# Altium integrated library ST Power Mgt DC-DC Converter.IntLib: 19 symbols
Pins are listed as number, name and electrical type; pins without a type are passive.

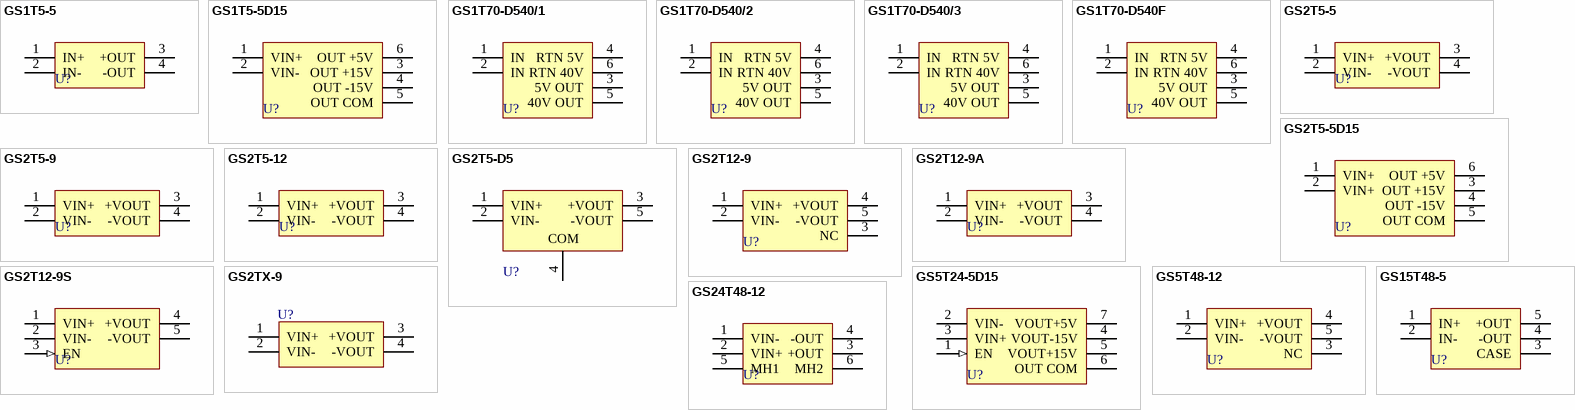
[diagram p0: symbols GS1T5-5 to GS24T48-12]

## GS1T5-5
designator U?
1W  DC-DC Converter; PackageDocument: 1994; Published: 24-Aug-2001; LatestRevisionDate: 17-Jul-2002; LatestRevisionNote: Re-released for DXP Platform.; DatasheetDocument: Jun-1994; PackageReference: MODULE4; Publisher: Altium Limited; ComponentLink1Description: Manufacturer Link; ComponentLink1URL: http://www.st.com/; ComponentLink2Description: Datasheet; ComponentLink2URL: http://www.st.com/stonline/products/literature/ds/2682/gs1t5-5.pdf
footprint MODULE4 (DIP; 4 Round Pins; Row Space 27.94 mm; Pitch 15.24 mm)
pins: 1 IN+ (power), 2 IN- (power), 3 +OUT (power), 4 -OUT (power)

## GS1T5-5D15
designator U?
1W Triple Output DC-DC Converter; Published: 24-Aug-2001; LatestRevisionDate: 17-Jul-2002; LatestRevisionNote: Re-released for DXP Platform.; DatasheetDocument: Jun-1994; PackageReference: MODULE6; Publisher: Altium Limited; ComponentLink1Description: Manufacturer Link; ComponentLink1URL: http://www.st.com/
footprint MODULE6 (DIP; 6 Round Pins; Row Space 20.32 mm; Pitch 2.54 mm)
pins: 1 VIN+ (power), 2 VIN- (power), 3 OUT +15V (power), 4 OUT -15V (power), 5 OUT COM (power), 6 OUT +5V (power)

## GS1T70-D540/1
designator U?
ISDN DC-DC Converter; Published: 24-Aug-2001; LatestRevisionDate: 17-Jul-2002; LatestRevisionNote: PCB footprint, 'DIP-P6/Y1.9' replaced; Re-released for DXP Platform.; DatasheetDocument: Jan-1996; PackageReference: MODULE6A; Publisher: Altium Limited; ComponentLink1Description: Manufacturer Link; ComponentLink1URL: http://www.st.com/
footprint MODULE6A (DIP; 6 Round Pins; Row Space 40.64 mm; Pitch 2.54 mm)
pins: 1 IN (power), 2 IN (power), 3 5V OUT (power), 4 RTN 5V (power), 5 40V OUT (power), 6 RTN 40V (power)

## GS1T70-D540/2
designator U?
ISDN DC-DC Converter; Published: 24-Aug-2001; LatestRevisionDate: 17-Jul-2002; LatestRevisionNote: PCB footprint, 'DIP-P6/Y1.9' replaced; Re-released for DXP Platform.; DatasheetDocument: Jan-1997; PackageReference: MODULE6A; Publisher: Altium Limited; ComponentLink1Description: Manufacturer Link; ComponentLink1URL: http://www.st.com/
footprint MODULE6A (DIP; 6 Round Pins; Row Space 40.64 mm; Pitch 2.54 mm)
pins: 1 IN (power), 2 IN (power), 3 5V OUT (power), 4 RTN 5V (power), 5 40V OUT (power), 6 RTN 40V (power)

## GS1T70-D540/3
designator U?
ISDN DC-DC Converter; Published: 24-Aug-2001; LatestRevisionDate: 17-Jul-2002; LatestRevisionNote: PCB footprint, 'DIP-P6/Y1.9' replaced; Re-released for DXP Platform.; DatasheetDocument: Jan-1997; PackageReference: MODULE6A; Publisher: Altium Limited; ComponentLink1Description: Manufacturer Link; ComponentLink1URL: http://www.st.com/
footprint MODULE6A (DIP; 6 Round Pins; Row Space 40.64 mm; Pitch 2.54 mm)
pins: 1 IN (power), 2 IN (power), 3 5V OUT (power), 4 RTN 5V (power), 5 40V OUT (power), 6 RTN 40V (power)

## GS1T70-D540F
designator U?
ISDN DC-DC Converter(French Version); Published: 24-Aug-2001; LatestRevisionDate: 17-Jul-2002; LatestRevisionNote: Re-released for DXP Platform.; DatasheetDocument: Jun-1994; PackageReference: MODULE6B; Publisher: Altium Limited; ComponentLink1Description: Manufacturer Link; ComponentLink1URL: http://www.st.com/
footprint MODULE6B (DIP; 6 Round Pins; Row Space 40.64 mm; Pitch 2.54 mm)
pins: 1 IN (power), 2 IN (power), 3 5V OUT (power), 4 RTN 5V (power), 5 40V OUT (power), 6 RTN 40V (power)

## GS2T5-5
designator U?
2W DC-DC Converter; PackageDocument: 1994; Published: 24-Aug-2001; LatestRevisionDate: 17-Jul-2002; LatestRevisionNote: Re-released for DXP Platform.; DatasheetDocument: Jun-1994; PackageReference: MODULE4; Publisher: Altium Limited; ComponentLink1Description: Manufacturer Link; ComponentLink1URL: http://www.st.com/
footprint MODULE4 (DIP; 4 Round Pins; Row Space 27.94 mm; Pitch 15.24 mm)
pins: 1 VIN+ (power), 2 VIN- (power), 3 +VOUT (power), 4 -VOUT (power)

## GS2T5-5D15
designator U?
2W Triple Output DC-DC Converter; Published: 24-Aug-2001; LatestRevisionDate: 17-Jul-2002; LatestRevisionNote: Re-released for DXP Platform.; DatasheetDocument: Dec-1993; PackageReference: MODULE6; Publisher: Altium Limited; ComponentLink1Description: Manufacturer Link; ComponentLink1URL: http://www.st.com/
footprint MODULE6 (DIP; 6 Round Pins; Row Space 20.32 mm; Pitch 2.54 mm)
pins: 1 VIN+ (power), 2 VIN+ (power), 3 OUT +15V (power), 4 OUT -15V (power), 5 OUT COM (power), 6 OUT +5V (power)

## GS2T5-9
designator U?
2W LAN DC-DC Converter; PackageDocument: 1994; Published: 24-Aug-2001; LatestRevisionDate: 17-Jul-2002; LatestRevisionNote: Re-released for DXP Platform.; DatasheetDocument: Dec-1993; PackageReference: MODULE4; Publisher: Altium Limited; ComponentLink1Description: Manufacturer Link; ComponentLink1URL: http://www.st.com/; ComponentLink2Description: Datasheet; ComponentLink2URL: http://www.st.com/stonline/products/literature/ds/2646/gs2t5-9.pdf
footprint MODULE4 (DIP; 4 Round Pins; Row Space 27.94 mm; Pitch 15.24 mm)
pins: 1 VIN+ (power), 2 VIN- (power), 3 +VOUT (power), 4 -VOUT (power)

## GS2T5-12
designator U?
2W DC-DC Converter; PackageDocument: 1994; Published: 24-Aug-2001; LatestRevisionDate: 17-Jul-2002; LatestRevisionNote: Re-released for DXP Platform.; DatasheetDocument: Dec-1993; PackageReference: MODULE4; Publisher: Altium Limited; ComponentLink1Description: Manufacturer Link; ComponentLink1URL: http://www.st.com/
footprint MODULE4 (DIP; 4 Round Pins; Row Space 27.94 mm; Pitch 15.24 mm)
pins: 1 VIN+ (power), 2 VIN- (power), 3 +VOUT (power), 4 -VOUT (power)

## GS2T5-D5
designator U?
2W Dual Output DC-DC Converter; Published: 24-Aug-2001; LatestRevisionDate: 17-Jul-2002; LatestRevisionNote: PCB footprint, 'DIP-P5/X2' replaced; Re-released for DXP Platform.; DatasheetDocument: Dec-1993; PackageReference: MODULE5C; Publisher: Altium Limited; ComponentLink1Description: Manufacturer Link; ComponentLink1URL: http://www.st.com/; ComponentLink2Description: Datasheet; ComponentLink2URL: http://www.st.com/stonline/products/literature/ds/2648/gs2t5-d5.pdf
footprint MODULE5C (DIP; 5 Round Pins; Row Space 20.32 mm; Pitch 2.54 mm)
pins: 1 VIN+ (power), 2 VIN- (power), 3 +VOUT (power), 4 COM (power), 5 -VOUT (power)

## GS2T12-9
designator U?
2W LAN DC-DC Converter; Published: 24-Aug-2001; LatestRevisionDate: 17-Jul-2002; LatestRevisionNote: PCB footprint, 'DIP-P5/X1.9' replaced; Re-released for DXP Platform.; DatasheetDocument: Jun-1994; PackageReference: MODULE5A; Publisher: Altium Limited; ComponentLink1Description: Manufacturer Link; ComponentLink1URL: http://www.st.com/
footprint MODULE5A (DIP; 5 Round Pins; Row Space 20.32 mm; Pitch 2.54 mm)
pins: 1 VIN+ (power), 2 VIN- (power), 3 NC, 4 +VOUT (power), 5 -VOUT (power)

## GS2T12-9A
designator U?
2W LAN DC-DC Converter; PackageDocument: 1994; Published: 24-Aug-2001; LatestRevisionDate: 17-Jul-2002; LatestRevisionNote: Re-released for DXP Platform.; DatasheetDocument: Dec-1993; PackageReference: MODULE4; Publisher: Altium Limited; ComponentLink1Description: Manufacturer Link; ComponentLink1URL: http://www.st.com/
footprint MODULE4 (DIP; 4 Round Pins; Row Space 27.94 mm; Pitch 15.24 mm)
pins: 1 VIN+ (power), 2 VIN- (power), 3 +VOUT (power), 4 -VOUT (power)

## GS2T12-9S
designator U?
2W LAN DC-DC Converter; Published: 24-Aug-2001; LatestRevisionDate: 17-Jul-2002; LatestRevisionNote: PCB footprint, 'DIP-P5/X1.6' replaced; Re-released for DXP Platform.; DatasheetDocument: Dec-1993; PackageReference: MODULE5B; Publisher: Altium Limited; ComponentLink1Description: Manufacturer Link; ComponentLink1URL: http://www.st.com/
footprint MODULE5B (DIP; 5 Round Pins; Row Space 15.24 mm; Pitch 2.54 mm)
pins: 1 VIN+ (power), 2 VIN- (power), 3 EN (in), 4 +VOUT (power), 5 -VOUT (power)

## GS2TX-9
designator U?
2W LAN DC-DC Converter; PackageDocument: 1994; Published: 24-Aug-2001; LatestRevisionDate: 17-Jul-2002; LatestRevisionNote: Re-released for DXP Platform.; DatasheetDocument: Dec-1993; PackageReference: MODULE4; Publisher: Altium Limited; ComponentLink1Description: Manufacturer Link; ComponentLink1URL: http://www.st.com/; ComponentLink2Description: Datasheet; ComponentLink2URL: http://www.st.com/stonline/products/literature/ds/2649/gs2tx-9.pdf
footprint MODULE4 (DIP; 4 Round Pins; Row Space 27.94 mm; Pitch 15.24 mm)
pins: 1 VIN+ (power), 2 VIN- (power), 3 +VOUT (power), 4 -VOUT (power)

## GS5T24-5D15
designator U?
5W Triple Output DC-DC Converter; Published: 24-Aug-2001; LatestRevisionDate: 17-Jul-2002; LatestRevisionNote: PCB footprint, 'DIP-P7/X2' replaced; Re-released for DXP Platform.; DatasheetDocument: Jun-1994; PackageReference: MODULE7; Publisher: Altium Limited; ComponentLink1Description: Manufacturer Link; ComponentLink1URL: http://www.st.com/; ComponentLink2Description: Datasheet; ComponentLink2URL: http://www.st.com/stonline/products/literature/ds/2653/gs5t24-5d15.pdf
footprint MODULE7 (DIP; 7 Round Pins; Row Space 40.64 mm; Pitch 5.08 mm)
pins: 1 EN (in), 2 VIN- (power), 3 VIN+ (power), 4 VOUT-15V (power), 5 VOUT+15V (power), 6 OUT COM (power), 7 VOUT+5V (power)

## GS5T48-12
designator U?
24W DC-DC Converter; Published: 24-Aug-2001; LatestRevisionDate: 17-Jul-2002; LatestRevisionNote: Re-released for DXP Platform.; DatasheetDocument: Jun-1994; PackageReference: MODULE5D; Publisher: Altium Limited; ComponentLink1Description: Manufacturer Link; ComponentLink1URL: http://www.st.com/
footprint MODULE5D (DIP; 5 Round Pins; Row Space 20.32 mm; Pitch 2.54 mm)
pins: 1 VIN+ (power), 2 VIN- (power), 3 NC, 4 +VOUT (power), 5 -VOUT (power)

## GS15T48-5
designator U?
15W DC-DC Converter; Published: 24-Aug-2001; LatestRevisionDate: 17-Jul-2002; LatestRevisionNote: Re-released for DXP Platform.; DatasheetDocument: Dec-1993; PackageReference: MODULE5; Publisher: Altium Limited; ComponentLink1Description: Manufacturer Link; ComponentLink1URL: http://www.st.com/
footprint MODULE5 (DIP; 5 Rectangular Pins; Row Space 43.18 mm; Pitch 5.08 mm)
pins: 1 IN+ (power), 2 IN- (power), 3 CASE, 4 -OUT (power), 5 +OUT (power)

## GS24T48-12
designator U?
24W DC-DC Converter; Published: 24-Aug-2001; LatestRevisionDate: 17-Jul-2002; LatestRevisionNote: PCB footprint, 'DIP-P4/X1.9' replaced; Re-released for DXP Platform.; DatasheetDocument: Dec-1993; PackageReference: MODULE4A; Publisher: Altium Limited; ComponentLink1Description: Manufacturer Link; ComponentLink1URL: http://www.st.com/
footprint MODULE4A (DIP; 4 Round Pins; Row Space 40.64 mm; Pitch 3.81 mm)
pins: 1 VIN- (power), 2 VIN+ (power), 3 +OUT (power), 4 -OUT (power), 5 MH1, 6 MH2